# EAGLE library part W237-07P (library con-wago-508)
WAGO SREW CLAMP
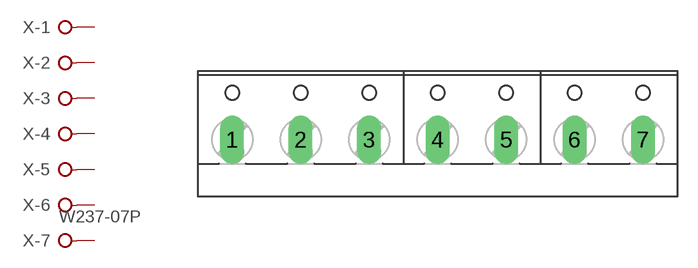
[diagram p1: symbol with the pads of W237-7P; footprint W237-7P]

Designator prefix X; gates -1=KL -2=KL -3=KL -4=KL -5=KL -6=KL -7=KL+V

## W237-07P (OC_FARNELL: unknown; OC_NEWARK: unknown)  [W237-7P]
1  -1:KL  pas
2  -2:KL  pas
3  -3:KL  pas
4  -4:KL  pas
5  -5:KL  pas
6  -6:KL  pas
7  -7:KL  pas

## Footprint W237-7P (pad centres in mm)
WAGO SREW CLAMP
drill 1.194 long: 1 -15.24,-0.635; 2 -10.16,-0.635; 3 -5.08,-0.635; 4 0,-0.635; 5 5.08,-0.635; 6 10.16,-0.635; 7 15.24,-0.635